# Altium schematic symbol library HC-SR501.SchLib: 3 symbols
Pins are listed as number, name and electrical type; pins without a type are passive.

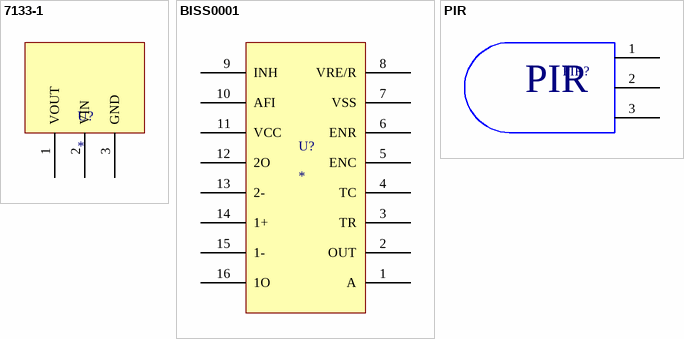
[diagram p0: symbols 7133-1 to PIR]

## 7133-1
designator U?
稳压芯片
pins: 1 VOUT, 2 VIN, 3 GND

## BISS0001
designator U?
传感信号处理集成电路
pins: 1 A, 2 OUT, 3 TR, 4 TC, 5 ENC, 6 ENR, 7 VSS, 8 VRE/R, 9 INH, 10 AFI, 11 VCC, 12 2O, 13 2-, 14 1+, 15 1-, 16 1O

## PIR
designator PIR?
热释电传感器
pins: 1 VIN, 2, 3